# Altium footprint library LIB_PCB_Kick.PcbLib: 29 footprints (part 2 of 2)
Each footprint in its own frame and in the unit in brackets; x right, y up, seen from the top. Pads: shape width x height; smd on the part's side, far side on the other; paste and mask are expansions set on the pad; w line width, h text height; cw(c..) or ccw(c..) is an arc to the next point about the centre after c.
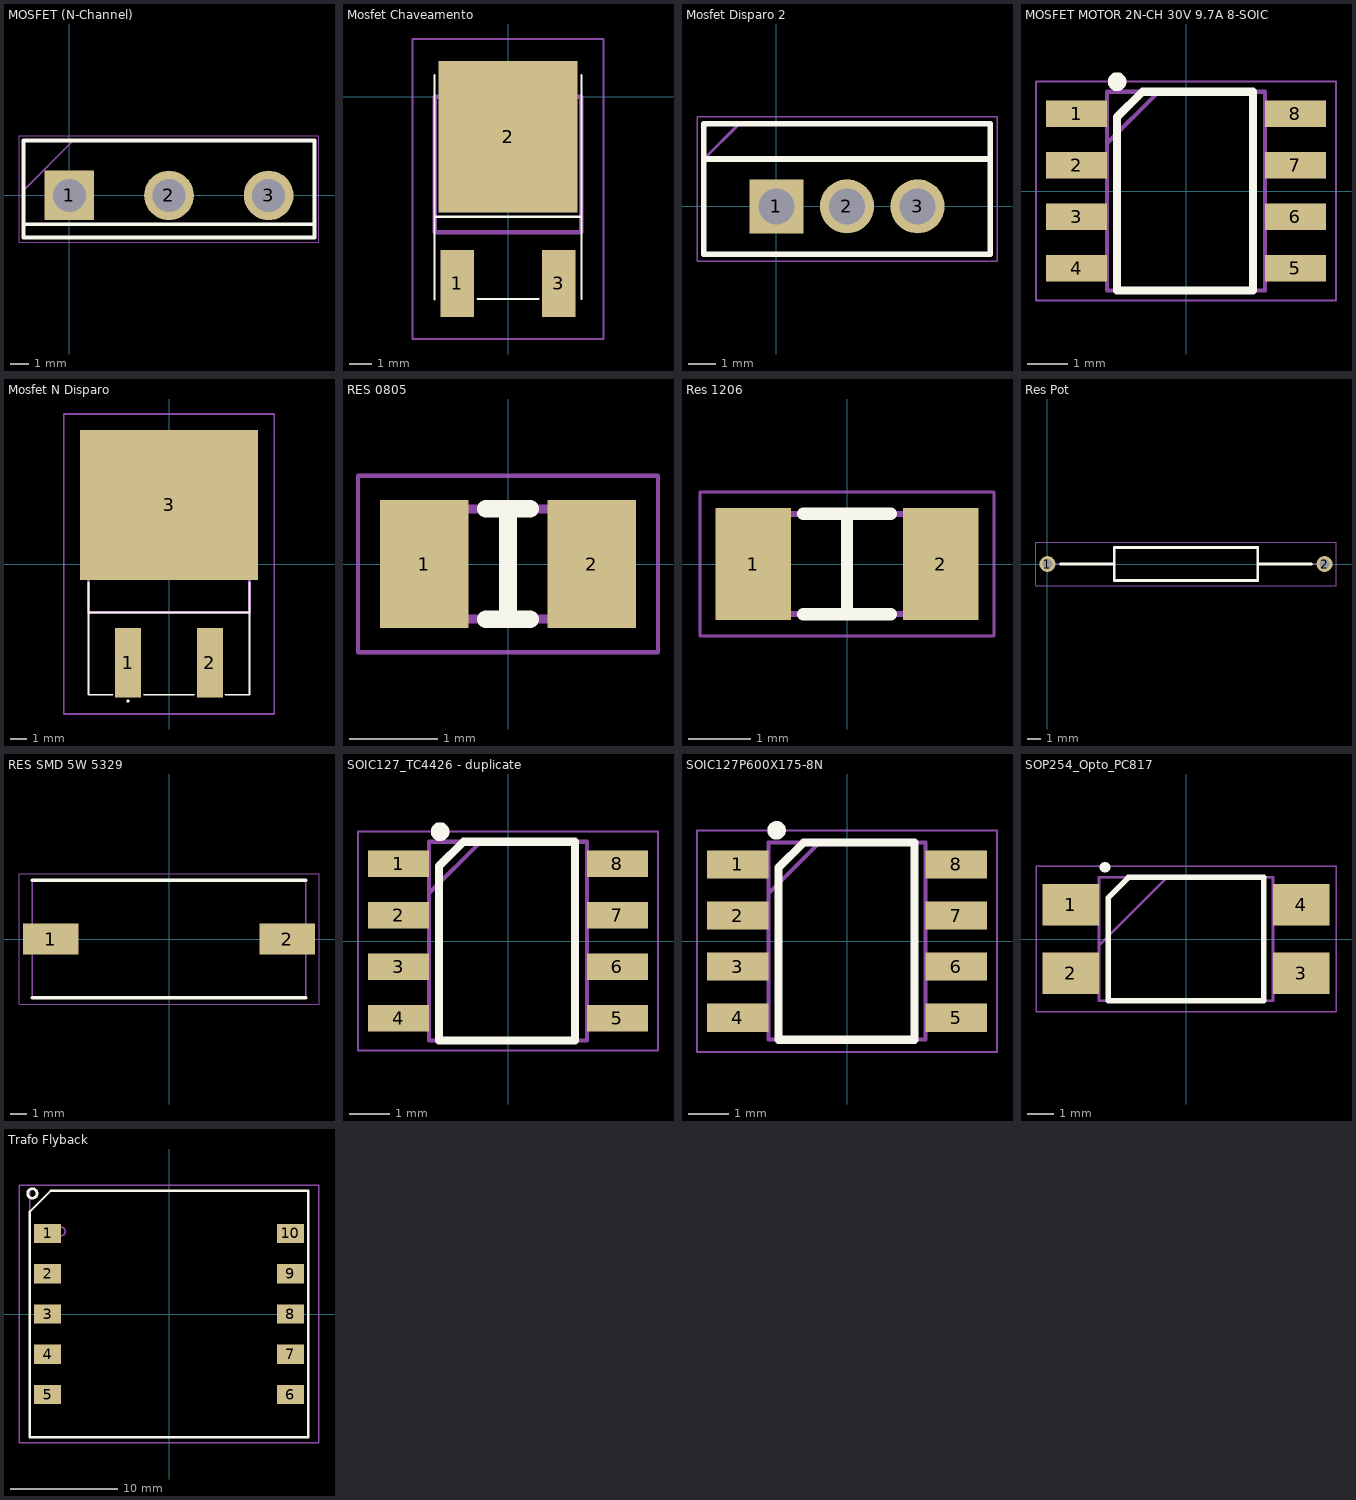
[diagram p1: the footprints below, top view; thin cyan lines are the x and y axes]

## MOSFET (N-Channel) [mm] "MOSFET N-CH 300V 94A TO-3P"
pads (3):
  rect 2.715x2.715 hole 1.81: 1(0,0)
  round 2.715 hole 1.81: 2(5.45,0) 3(10.9,0)
Top Overlay:
  lines w0.2: -2.5,-1.575 13.4,-1.575 13.4,-2.3 ; 13.4,-2.3 13.4,3 -2.5,3 -2.5,0 -2.5,-2.3 13.4,-2.3
Mechanical 13:
  lines w0.1: -2.5,0.275 0.225,3 ; -2.5,-2.3 -2.5,3 13.4,3 13.4,-2.3 -2.5,-2.3
Mechanical 15:
  lines w0.05: -2.75,-2.55 -2.75,3.25 13.65,3.25 13.65,-2.55 -2.75,-2.55
3D body "Mosfet N TO247.STEP": height 26.19, standoff -15.72, extent -2.68,-2.184 13.58,3.116

## Mosfet Chaveamento [mm] "Mosfet-N 50V 50A"
pads (3):
  rect 1.5x3 smd: 1(-2.286,-8.4) 3(2.286,-8.4)
  rect 6.25x6.8 smd: 2(0,-1.8)
Top Overlay:
  lines w0.1: -3.302,-9.114 -3.302,-5.396 ; -3.302,0.986 -3.302,-5.396 ; -1.375,-9.098 1.373,-9.098 1.375,-9.1 1.35,-9.1 ; 3.302,-9.098 3.302,-5.396 ; 3.302,0.986 3.302,-5.396 ; -3.302,-5.396 3.302,-5.396
Mechanical 13:
  lines w0.2: -3.302,-6.096 -3.302,0 3.302,0 3.302,-6.096 -3.302,-6.096
Mechanical 15:
  lines w0.1: -4.302,-10.9 -4.302,2.6 4.302,2.6 4.302,-10.9 -4.302,-10.9
3D body "Mosfet Chaveamento Flyback_TO-252AA.STEP": height 2.37, standoff -0.03, extent -3.353,-9.114 3.381,0.986

## Mosfet Disparo 2 [mm] "Mosfet N Disparo"
pads (3):
  rect 1.95x1.95 hole 1.3: 1(0,0)
  round 1.95 hole 1.3: 2(2.54,0) 3(5.08,0)
Top Overlay:
  lines w0.2: -2.61,1.705 7.63,1.705 ; -2.61,-1.725 -2.61,0 -2.61,2.975 7.69,2.975 7.69,-1.725 -2.61,-1.725
Mechanical 13:
  lines w0.1: -2.61,1.705 -1.34,2.975 ; -2.61,-1.725 7.69,-1.725 7.69,2.975 -2.61,2.975 -2.61,-1.725
Mechanical 15:
  lines w0.05: -2.86,-1.975 7.94,-1.975 7.94,3.225 -2.86,3.225 -2.86,-1.975
3D body "2SK2364.stp": height 34, standoff -3, extent -2.46,-1.725 7.54,2.975

## MOSFET MOTOR 2N-CH 30V 9.7A 8-SOIC [mm]
pads (8):
  rect 1.5x0.65 smd: 1(-2.7,1.905) 2(-2.7,0.635) 3(-2.7,-0.635) 4(-2.7,-1.905) 5(2.7,-1.905) 6(2.7,-0.635) 7(2.7,0.635) 8(2.7,1.905)
Top Overlay:
  circle w0.254: c-1.7,2.7 r0.103
  lines w0.2: -1.7,-2.45 -1.7,1.825 -1.075,2.45 1.65,2.45 1.65,-2.45 -1.7,-2.45
Mechanical 13:
  lines w0.1: -1.95,1.18 -0.68,2.45 ; -1.95,-2.45 -1.95,2.45 1.95,2.45 1.95,-2.45 -1.95,-2.45
Mechanical 15:
  lines w0.05: -3.7,-2.7 -3.7,2.7 3.7,2.7 3.7,-2.7 -3.7,-2.7
3D body "TC4426EOA.stp": height 1.75, standoff 0, extent -3,-2.45 3,2.45

## Mosfet N Disparo [mm] "N-Channel 300V 56A"
pads (3):
  rect 1.6x4.293 smd: 1(-2.54,-6.128) 2(2.54,-6.128)
  rect 11.074x9.296 smd: 3(0,3.664)
Top Overlay:
  lines w0.1: -5,-1.15 -5,-3.012 ; -3.5,-8.121 -5,-8.121 -5,-3.012 ; -1.571,-8.121 1.575,-8.121 1.55,-8.121 ; 3.5,-8.125 4.996,-8.125 5,-8.121 5,-3.012 ; 5,-1.15 5,-3.012 ; -5,-3.012 5,-3.012 ; -2.6,-8.512 ccw(c-2.55,-8.512) -2.5,-8.512 ccw(c-2.55,-8.512) -2.6,-8.512
Mechanical 13:
  lines w0.2: -5,-3.012 -5,6.388 5,6.388 5,-3.012 -5,-3.012
Mechanical 15:
  lines w0.1: -6.537,-9.312 -6.537,9.312 6.537,9.312 6.537,-9.312 -6.537,-9.312
3D body "Mosfet N Disparo.STEP": height 4.8, standoff -0.22, extent -5.105,-8.121 5.055,7.143

## RES 0805 [mm] "RESC2012X65N"
pads (2):
  rect 1x1.45 smd: 1(-0.95,0) 2(0.95,0)
Top Overlay:
  lines w0.2: -0.25,-0.625 0.25,-0.625 0,-0.625 0,-0.525 0,0.525 0,0.625 0.25,0.625 -0.25,0.625
Mechanical 13:
  lines w0.1: -1,-0.625 1,-0.625 1,0.625 -1,0.625 -1,-0.625
Mechanical 15:
  lines w0.05: -1.7,-1 1.7,-1 1.7,1 -1.7,1 -1.7,-1
3D body "CPF0805B105RE1.stp": height 0.65, standoff 0, extent -1,-0.625 1,0.625

## Res 1206 [mm] "RESC3216X75N"
pads (2):
  rect 1.2x1.8 smd: 1(-1.5,0) 2(1.5,0)
Top Overlay:
  lines w0.2: -0.7,-0.8 0.7,-0.8 0,-0.8 0,-0.7 0,0.7 0,0.8 0.7,0.8 -0.7,0.8
Mechanical 13:
  lines w0.1: -1.6,-0.8 1.6,-0.8 1.6,0.8 -1.6,0.8 -1.6,-0.8
Mechanical 15:
  lines w0.05: -2.35,-1.15 2.35,-1.15 2.35,1.15 -2.35,1.15 -2.35,-1.15
3D body "CR1206-FW-1504ELF.stp": height 0.75, standoff 0, extent -1.6,-0.8 1.6,0.8

## Res Pot [mm] "FEI Resistor POT 3k biribinha"
pads (2):
  round 1.15 hole 0.75: 1(0,0) 2(19.9,0)
Top Overlay:
  lines w0.2: 0.925,0 4.795,0 ; 15.105,0 18.975,0 ; 4.795,-1.195 4.795,1.195 15.105,1.195 15.105,-1.195 4.795,-1.195
Mechanical 13:
  lines w0.1: 0,0 4.795,0 ; 15.105,0 19.9,0 ; 4.795,-1.195 4.795,1.195 15.105,1.195 15.105,-1.195 4.795,-1.195
Mechanical 15:
  lines w0.05: -0.825,-1.545 -0.825,1.545 20.725,1.545 20.725,-1.545 -0.825,-1.545
3D body "CW0014K700JE12.stp": height 3.18, standoff -3.18, extent -0.277,-1.585 20.15,1.585

## RES SMD 5W 5329 [mm] "RESM17073X710N"
pads (2):
  rect 3.45x1.9 smd: 1(-7.35,0) 2(7.35,0)
Top Overlay:
  lines w0.2: -8.5,-3.65 8.5,-3.65 ; -8.5,3.65 8.5,3.65
Mechanical 13:
  lines w0.1: -8.5,-3.65 8.5,-3.65 8.5,3.65 -8.5,3.65 -8.5,-3.65
Mechanical 15:
  lines w0.05: -9.325,-4.05 9.325,-4.05 9.325,4.05 -9.325,4.05 -9.325,-4.05
3D body "SMW52R2JT.stp": height 7.1, standoff 0, extent -8.5,-3.65 8.5,3.65

## SOIC127_TC4426 - duplicate [mm] "TC4426"
pads (8):
  rect 1.5x0.65 smd: 1(-2.7,1.905) 2(-2.7,0.635) 3(-2.7,-0.635) 4(-2.7,-1.905) 5(2.7,-1.905) 6(2.7,-0.635) 7(2.7,0.635) 8(2.7,1.905)
Top Overlay:
  circle w0.254: c-1.675,2.7 r0.103
  lines w0.2: -1.7,-2.45 -1.7,1.85 -1.1,2.45 1.65,2.45 1.65,-2.45 -1.7,-2.45
Mechanical 13:
  lines w0.1: -1.95,1.18 -0.68,2.45 ; -1.95,-2.45 -1.95,2.45 1.95,2.45 1.95,-2.45 -1.95,-2.45
Mechanical 15:
  lines w0.05: -3.7,-2.7 -3.7,2.7 3.7,2.7 3.7,-2.7 -3.7,-2.7
3D body "TC4426EOA.stp": height 1.75, standoff 0, extent -3,-2.45 3,2.45

## SOIC127P600X175-8N [mm]
pads (8):
  rect 1.525x0.7 smd: 1(-2.712,1.905) 2(-2.712,0.635) 3(-2.712,-0.635) 4(-2.712,-1.905) 5(2.712,-1.905) 6(2.712,-0.635) 7(2.712,0.635) 8(2.712,1.905)
Top Overlay:
  circle w0.254: c-1.75,2.75 r0.103
  lines w0.2: -1.7,-2.45 1.675,-2.45 1.675,2.45 -1.075,2.45 -1.7,1.825 -1.7,-2.45
Mechanical 13:
  lines w0.1: -1.95,1.18 -0.68,2.45 ; -1.95,-2.45 -1.95,2.45 1.95,2.45 1.95,-2.45 -1.95,-2.45
Mechanical 15:
  lines w0.05: -3.725,-2.75 -3.725,2.75 3.725,2.75 3.725,-2.75 -3.725,-2.75
3D body "IRF8313TRPBF.stp": height 1.75, standoff 0, extent -3,-2.45 3,2.45

## SOP254_Opto_PC817 [mm] "PC817X1NIP1B"
pads (4):
  rect 2.1x1.55 smd: 1(-4.3,1.27) 2(-4.3,-1.27) 3(4.3,-1.27) 4(4.3,1.27)
Top Overlay:
  lines w0.2: -2.9,-2.3 2.9,-2.3 2.9,2.3 -2.15,2.3 -2.9,1.55 -2.9,-2.3
  lines w0.4: -3.025,2.675 -3.025,2.675
Mechanical 13:
  lines w0.1: -3.25,-0.24 -0.71,2.3 ; -3.25,-2.3 3.25,-2.3 3.25,2.3 -3.25,2.3 -3.25,-2.3
Mechanical 15:
  lines w0.05: -5.6,-2.725 5.6,-2.725 5.6,2.725 -5.6,2.725 -5.6,-2.725
3D body "PC817X1NIP1B.stp": height 4.2, standoff 0, extent -4.8,-2.3 4.8,2.3

## Trafo Flyback [mm] "750032051"
pads (10):
  rect 2.5x1.8 smd: 1(-11.33,7.52) 2(-11.33,3.76) 3(-11.33,0) 4(-11.33,-3.76) 5(-11.33,-7.52) 6(11.33,-7.52) 7(11.33,-3.76) 8(11.33,0) 9(11.33,3.76) 10(11.33,7.52)
Top Overlay:
  circle w0.254: c-12.75,11.25 r0.443
  lines w0.127: -13,-11.5 13,-11.5
  lines w0.2: -13,-11.5 -13,9.55 -11.05,11.5 13,11.5 13,-11.5 -13,-11.5
Mechanical 13:
  circle w0.127: c-10.1,7.7 r0.412
  lines w0.127: -13,-11.5 -13,11.5 ; 13,-11.5 13,11.5
Mechanical 15:
  lines w0.127: -14,-12 14,-12 14,12 -14,12 -14,-12
3D body "Trafo Flyback.STEP": height 11.48, standoff 0, extent -14.77,-11.558 14.313,11.556